# EAGLE library part MAX9920 (library my_ic)
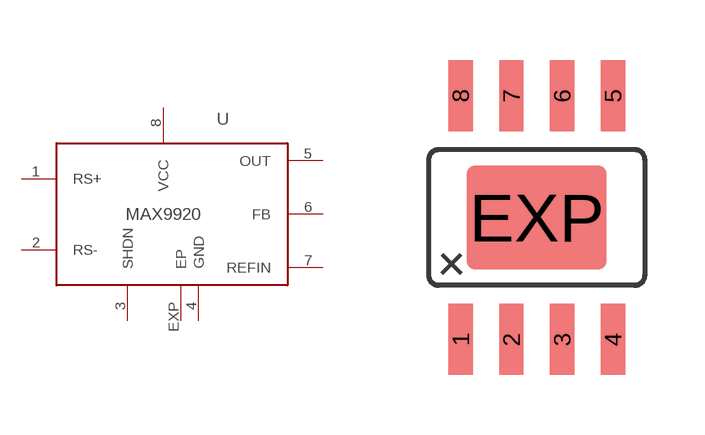
[diagram p26: symbol with the pads of SOIC-8E; footprint SOIC-8E]

Designator prefix -

## MAX9920  [SOIC-8E]
1  RS+
2  RS-
3  SHDN
4  GND
5  OUT
6  FB
7  REFIN
8  VCC
EXP  EP

## Footprint SOIC-8E (pad centres in mm)
smd 0.61 x 1.778: 1 -1.905,-3.048; 2 -0.635,-3.048; 3 0.635,-3.048; 4 1.905,-3.048; 5 1.905,3.048; 6 0.635,3.048; 7 -0.635,3.048; 8 -1.905,3.048
smd 3.505 x 2.616: EXP 0,0